# Altium footprint library Meadow.PcbLib: 1 footprints
Each footprint in its own frame and in the unit in brackets; x right, y up, seen from the top. Pads: shape width x height; smd on the part's side, far side on the other; paste and mask are expansions set on the pad; w line width, h text height; cw(c..) or ccw(c..) is an arc to the next point about the centre after c.
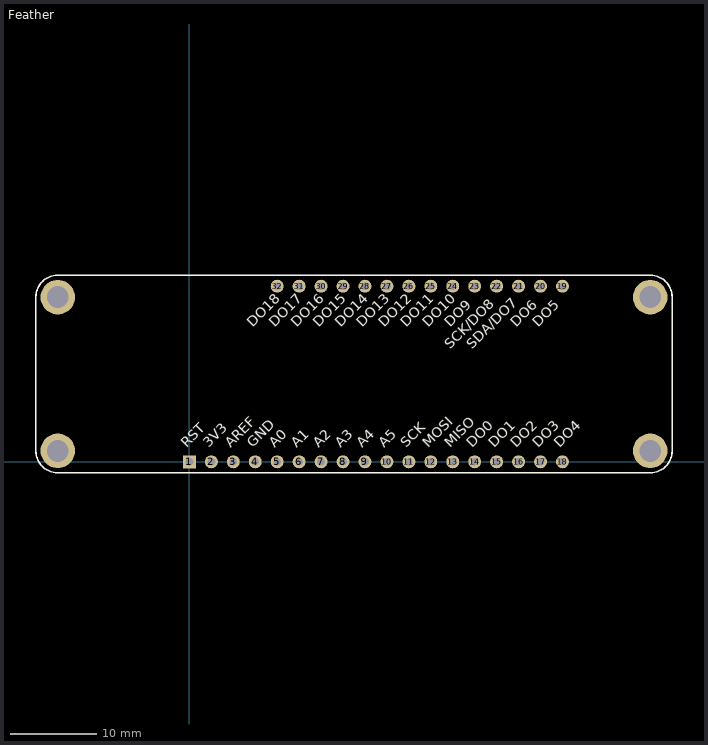
[diagram p0: the footprint, top view; thin cyan lines are the x and y axes]

## Feather [mm] "Adafruit Feather Form Factor Board"
pads (36):
  rect 1.5x1.5 hole 0.9: 1(0,0)
  round 1.5 hole 0.9: 2(2.54,0) 3(5.08,0) 4(7.62,0) 5(10.16,0) 6(12.7,0) 7(15.24,0) 8(17.78,0) 9(20.32,0) 10(22.86,0) 11(25.4,0) 12(27.94,0) 13(30.48,0) 14(33.02,0) 15(35.56,0) 16(38.1,0) 17(40.64,0) 18(43.18,0) 19(43.18,20.32) 20(40.64,20.32) 21(38.1,20.32) 22(35.56,20.32) 23(33.02,20.32) 24(30.48,20.32) 25(27.94,20.32) 26(25.4,20.32) 27(22.86,20.32) 28(20.32,20.32) 29(17.78,20.32) 30(15.24,20.32) 31(12.7,20.32) 32(10.16,20.32)
  round 4 hole 2.54: ""(-15.24,1.27) ""(-15.24,19.05) ""(53.34,1.27) ""(53.34,19.05)
Top Overlay:
  lines w0.2: -17.78,1.27 ccw(c-15.24,1.27) -15.24,-1.27 53.34,-1.27 ccw(c53.34,1.27) 55.88,1.27 55.88,19.05 ccw(c53.34,19.05) 53.34,21.59 -15.24,21.59 ccw(c-15.24,19.05) -17.78,19.05 -17.78,1.27
  text "DO18" at 7.62,15.24 h2
  text "DO17" at 10.16,15.24 h2
  text "DO16" at 12.7,15.24 h2
  text "DO15" at 15.24,15.24 h2
  text "DO14" at 17.78,15.24 h2
  text "DO13" at 20.32,15.24 h2
  text "DO12" at 22.86,15.24 h2
  text "DO11" at 25.4,15.24 h2
  text "DO10" at 27.94,15.24 h2
  text "DO9" at 30.48,15.24 h2
  text "SCK/DO8" at 30.48,12.7 h2
  text "SDA/DO7" at 33.02,12.7 h2
  text "DO6" at 38.1,15.24 h2
  text "DO5" at 40.64,15.24 h2
  text "DO4" at 43.18,1.27 h2
  text "DO3" at 40.64,1.27 h2
  text "DO2" at 38.1,1.27 h2
  text "DO1" at 35.56,1.27 h2
  text "DO0" at 33.02,1.27 h2
  text "MISO" at 30.48,1.27 h2
  text "MOSI" at 27.94,1.27 h2
  text "SCK" at 25.4,1.27 h2
  text "A5" at 22.86,1.27 h2
  text "A4" at 20.32,1.27 h2
  text "A3" at 17.78,1.27 h2
  text "A2" at 15.24,1.27 h2
  text "A1" at 12.7,1.27 h2
  text "A0" at 10.16,1.27 h2
  text "GND" at 7.62,1.27 h2
  text "AREF" at 5.08,1.27 h2
  text "3V3" at 2.54,1.27 h2
  text "RST" at 0,1.27 h2